# EAGLE library part TS-107-T-A (library SAMTEC-Txx_By_element14_Batch_1)
CONN HEADER, 2.54MM, THT VERT, 7 WAY
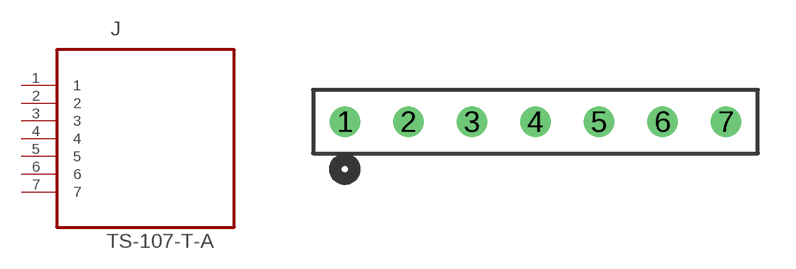
[diagram p393: symbol with the pads of SAMTEC_TS-107-T-A; footprint SAMTEC_TS-107-T-A]

Designator prefix J

## TS-107-T-A (MPN: TS-107-T-A; OC_FARNELL: 2055266; OC_NEWARK: -; PACKAGE: HEADER, 2.54MM, THT VERT,7 WAY; SUPPLIER: SAMTEC)  [SAMTEC_TS-107-T-A]
1  1  pas
2  2  pas
3  3  pas
4  4  pas
5  5  pas
6  6  pas
7  7  pas

## Footprint SAMTEC_TS-107-T-A (pad centres in mm)
drill 0.711: 1 0,0; 2 2.54,0; 3 5.08,0; 4 7.62,0; 5 10.16,0; 6 12.7,0; 7 15.24,0